# EAGLE library part ESP32-WROOM (library ali_modules)
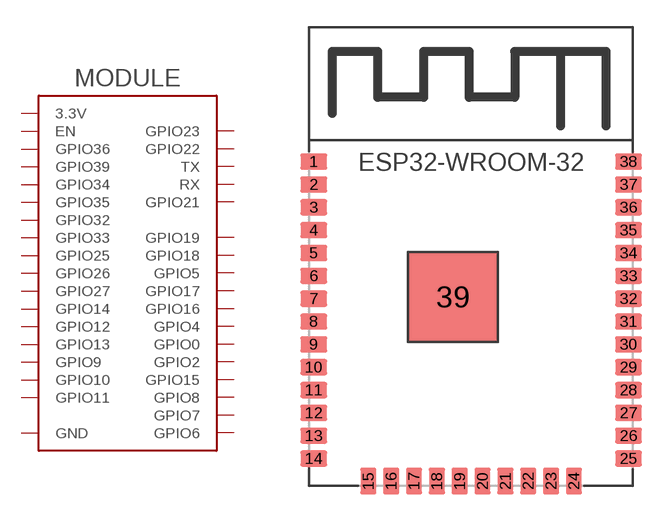
[diagram p21: symbol with the pads of ESP32-WROOM; footprint ESP32-WROOM]

Designator prefix MODULE

## ESP32-WROOM (MANF: Espressif Systems; MANF#: ESP32-­WROOM­-32)  [ESP32-WROOM]
1  GND
2  3.3V
3  EN
4  GPIO36
5  GPIO39
6  GPIO34
7  GPIO35
8  GPIO32
9  GPIO33
10  GPIO25
11  GPIO26
12  GPIO27
13  GPIO14
14  GPIO12
15  GND
16  GPIO13
17  GPIO9
18  GPIO10
19  GPIO11
20  GPIO6
21  GPIO7
22  GPIO8
23  GPIO15
24  GPIO2
25  GPIO0
26  GPIO4
27  GPIO16
28  GPIO17
29  GPIO5
30  GPIO18
31  GPIO19
33  GPIO21
34  RX
35  TX
36  GPIO22
37  GPIO23
38  GND
39  GND

## Footprint ESP32-WROOM (pad centres in mm)
3D model <https://grabcad.com/library/esp-wroom-32-esp32-1>
smd 1.5 x 0.9: 1 -8.75,5.26; 2 -8.75,3.99; 3 -8.75,2.72; 4 -8.75,1.45; 5 -8.75,0.18; 6 -8.75,-1.09; 7 -8.75,-2.36; 8 -8.75,-3.63; 9 -8.75,-4.9; 10 -8.75,-6.17; 11 -8.75,-7.44; 12 -8.75,-8.71; 13 -8.75,-9.98; 14 -8.75,-11.25; 25 8.75,-11.25; 26 8.75,-9.98; 27 8.75,-8.71; 28 8.75,-7.44; 29 8.75,-6.17; 30 8.75,-4.9; 31 8.75,-3.63; 32 8.75,-2.36; 33 8.75,-1.09; 34 8.75,0.18; 35 8.75,1.45; 36 8.75,2.72; 37 8.75,3.99; 38 8.75,5.26
smd 0.9 x 1.5: 15 -5.715,-12.5; 16 -4.445,-12.5; 17 -3.175,-12.5; 18 -1.905,-12.5; 19 -0.635,-12.5; 20 0.635,-12.5; 21 1.905,-12.5; 22 3.175,-12.5; 23 4.445,-12.5; 24 5.715,-12.5
smd 5 x 5: 39 -1,-2.25